# EAGLE library part ADC:AD7854(12-BIT,PAR,200KSPS) (library QuantumOptics)
AD7854, 12-bit ADC, Analog Devices, 3-5V, 100-200Ks/s, parallel 12-bit or 8-bit uC compatible. http://www.analog.com/UploadedFiles/Data_Sheets/261382579AD7854_L_b.pdf
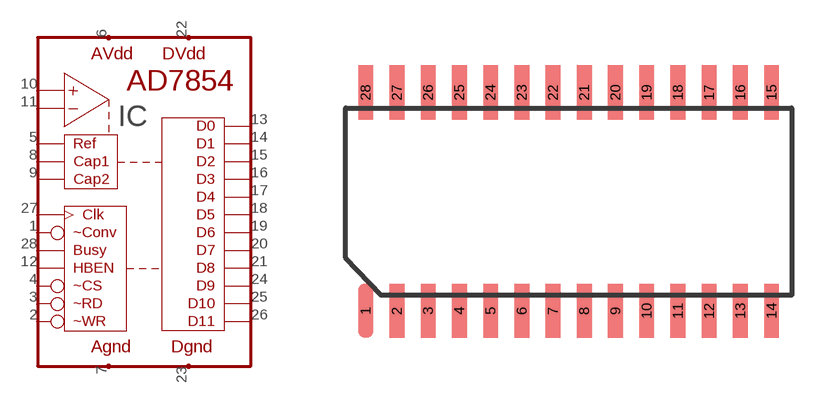
[diagram p50: symbol with the pads of SOIC28; footprint SOIC28]

Designator prefix IC

## ADC:AD7854(12-BIT,PAR,200KSPS)-SOIC28  [SOIC28]
1  ~CONV
2  ~WR
3  ~RD
4  ~CS
5  REF
6  AVDD
7  AGND
8  C1
9  C2
10  IN+
11  IN-
12  HBEN
13  D0
14  D1
15  D2
16  D3
17  D4
18  D5
19  D6
20  D7
21  D8
22  DVDD
23  DGND
24  D9
25  D10
26  D11
27  CLK
28  BUSY

## Footprint SOIC28 (pad centres in mm)
SOIC-28, TI's DW package, 0.05" pad spacing with 10mm (0.394") wide case and 10.63WOA.
smd 0.6 x 2.2: 1 -8.255,-4.445; 2 -6.985,-4.445; 3 -5.715,-4.445; 4 -4.445,-4.445; 5 -3.175,-4.445; 6 -1.905,-4.445; 7 -0.635,-4.445; 8 0.635,-4.445; 9 1.905,-4.445; 10 3.175,-4.445; 11 4.445,-4.445; 12 5.715,-4.445; 13 6.985,-4.445; 14 8.255,-4.445; 15 8.255,4.445; 16 6.985,4.445; 17 5.715,4.445; 18 4.445,4.445; 19 3.175,4.445; 20 1.905,4.445; 21 0.635,4.445; 22 -0.635,4.445; 23 -1.905,4.445; 24 -3.175,4.445; 25 -4.445,4.445; 26 -5.715,4.445; 27 -6.985,4.445; 28 -8.255,4.445